# EAGLE library part HRXL-MAXSONAR-WRC-MB7387 (library PCB_KioskMB_r3.3-05)
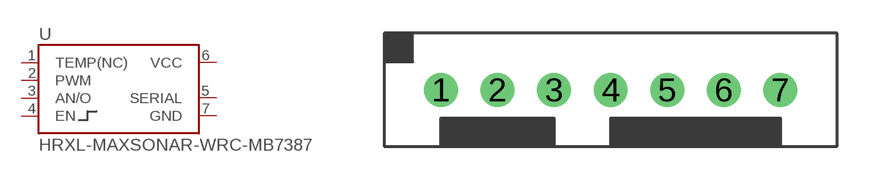
[diagram p33: symbol with the pads of HRXL-MAXSONAR-WRC-MB7387; footprint HRXL-MAXSONAR-WRC-MB7387]

Designator prefix U

## HRXL-MAXSONAR-WRC-MB7387  [HRXL-MAXSONAR-WRC-MB7387]
1  TEMP(NC)
2  PWM
3  AN/O
4  EN
5  SERIAL
6  VCC
7  GND

## Footprint HRXL-MAXSONAR-WRC-MB7387 (pad centres in mm)
drill 1.016: 1 2.54,2.54; 2 5.08,2.54; 3 7.62,2.54; 4 10.16,2.54; 5 12.7,2.54; 6 15.24,2.54; 7 17.78,2.54